# Altium footprint library TSSOP-8_2.3x2x05P.PcbLib: 1 footprints
Each footprint in its own frame and in the unit in brackets; x right, y up, seen from the top. Pads: shape width x height; smd on the part's side, far side on the other; paste and mask are expansions set on the pad; w line width, h text height; cw(c..) or ccw(c..) is an arc to the next point about the centre after c.
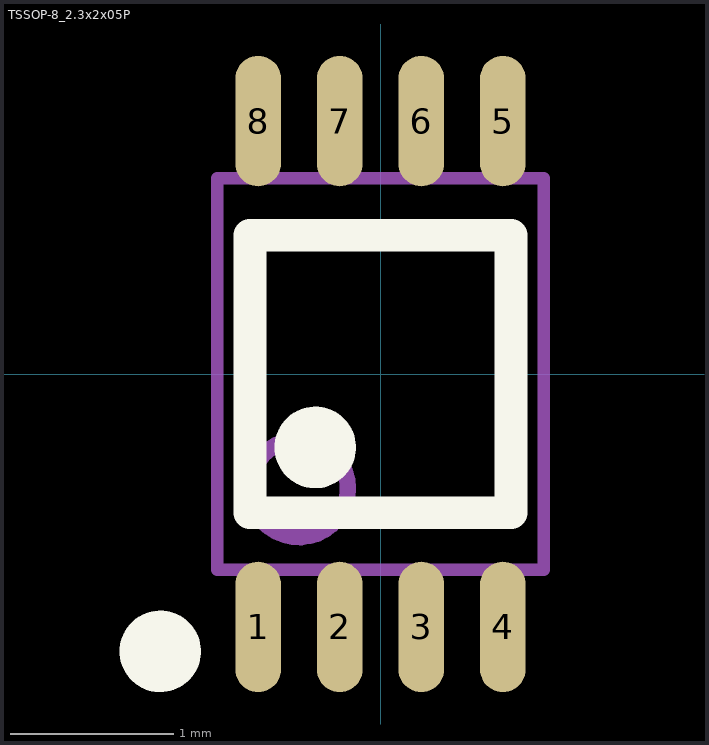
[diagram p0: the footprint, top view; thin cyan lines are the x and y axes]

## TSSOP-8_2.3x2x05P [mm]
pads (8):
  oval 0.28x0.8 smd mask+0.051: 1(-0.75,-1.55) 2(-0.25,-1.55) 3(0.25,-1.55) 4(0.75,-1.55) 5(0.75,1.55) 6(0.25,1.55) 7(-0.25,1.55) 8(-0.75,1.55)
Top Overlay:
  circle w0.25: c-1.35,-1.7 r0.125
  circle w0.25: c-0.4,-0.45 r0.125
  lines w0.2: -0.8,-0.85 0.8,-0.85 0.8,0.85 -0.8,0.85 -0.8,-0.85
Mechanical 13:
  circle w0.1: c-0.5,-0.7 r0.3
  lines w0.076: -1,-1.2 1,-1.2 1,1.2 -1,1.2 -1,-1.2